# Altium schematic symbol library FMC-LPC.SchLib: 1 symbol
Pins are listed as number, name and electrical type; pins without a type are passive.

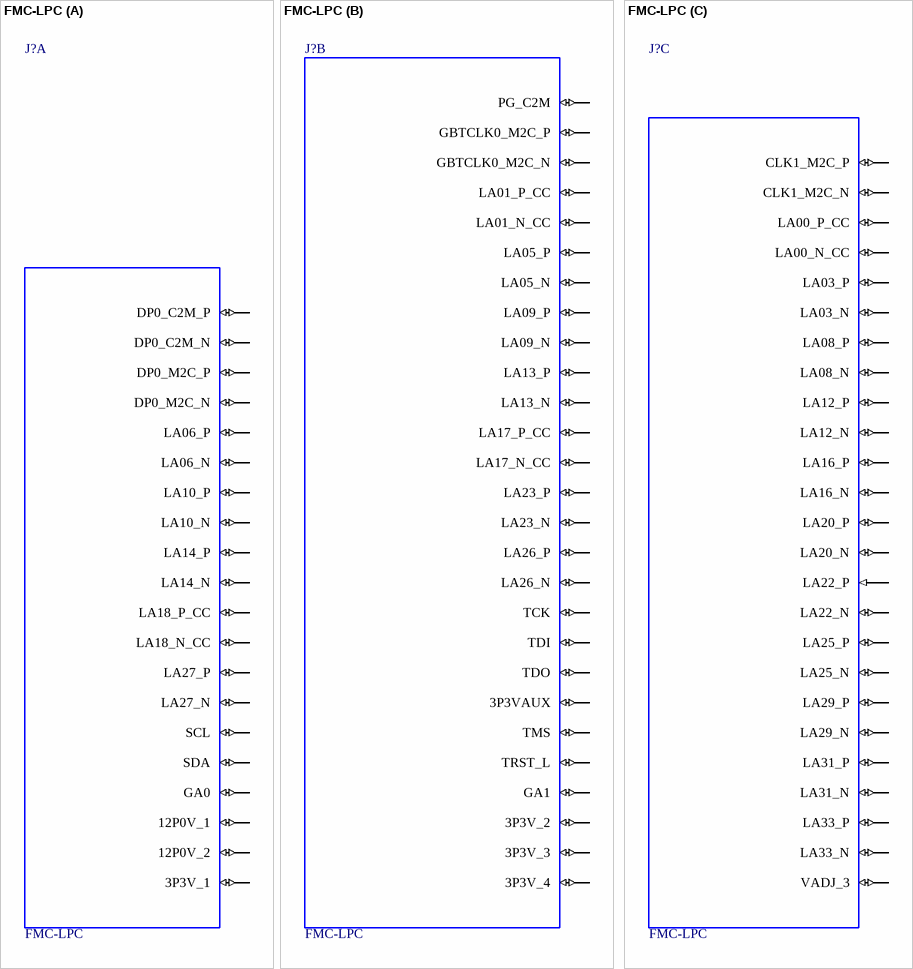
[diagram p0: symbol FMC-LPC]

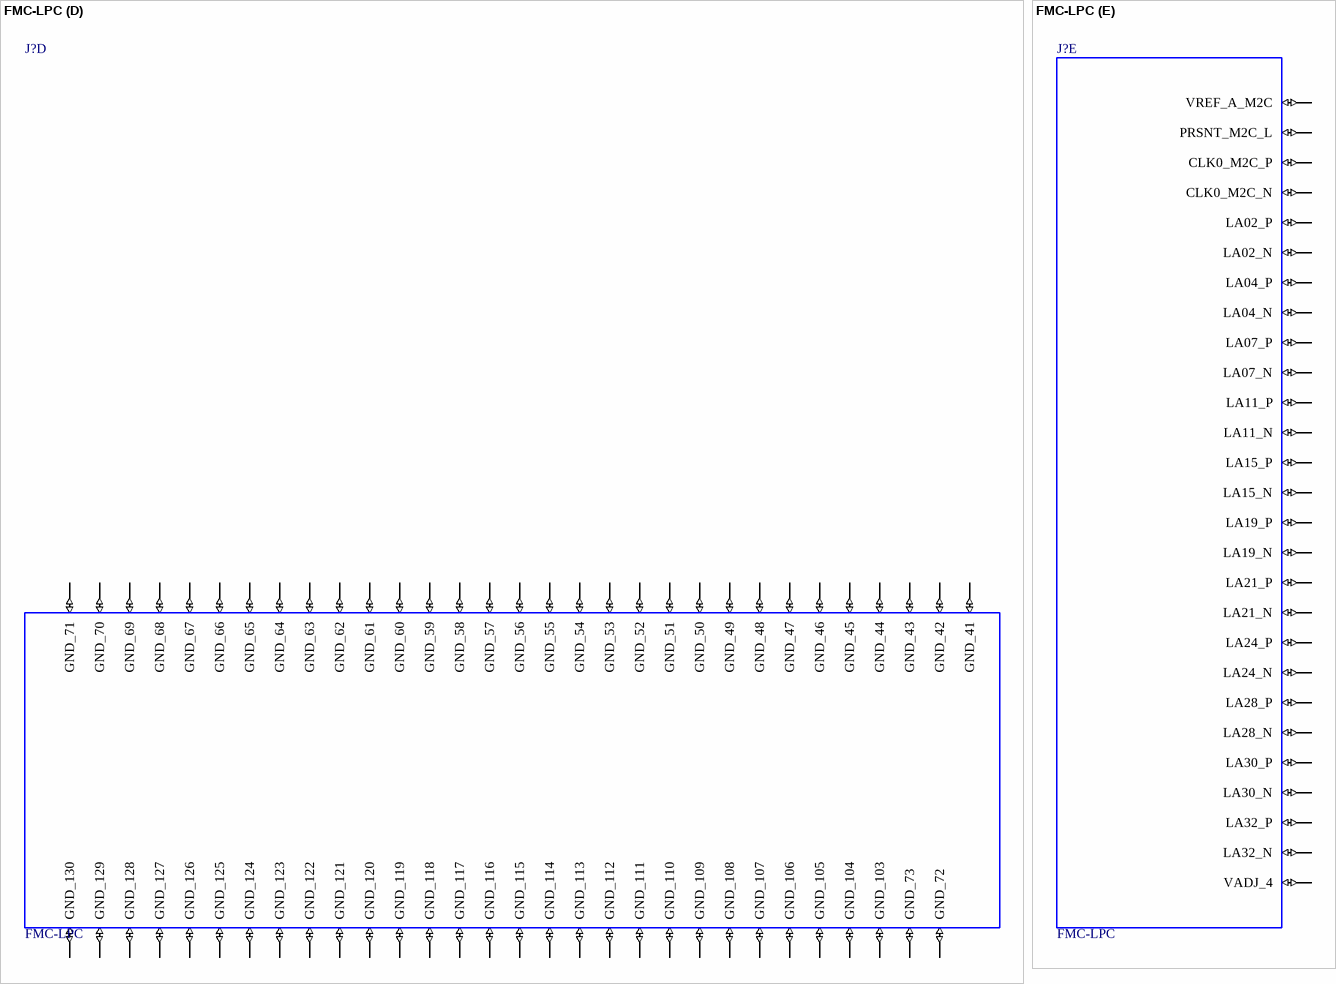
[diagram p1: symbol FMC-LPC]

## FMC-LPC
designator J?
part A pins: C2 DP0_C2M_P (io), C3 DP0_C2M_N (io), C6 DP0_M2C_P (io), C7 DP0_M2C_N (io), C10 LA06_P (io), C11 LA06_N (io), C14 LA10_P (io), C15 LA10_N (io), C18 LA14_P (io), C19 LA14_N (io), C22 LA18_P_CC (io), C23 LA18_N_CC (io), C26 LA27_P (io), C27 LA27_N (io), C30 SCL (io), C31 SDA (io), C34 GA0 (io), C35 12P0V_1 (io), C37 12P0V_2 (io), C39 3P3V_1 (io)
part B pins: D1 PG_C2M (io), D4 GBTCLK0_M2C_P (io), D5 GBTCLK0_M2C_N (io), D8 LA01_P_CC (io), D9 LA01_N_CC (io), D11 LA05_P (io), D12 LA05_N (io), D14 LA09_P (io), D15 LA09_N (io), D17 LA13_P (io), D18 LA13_N (io), D20 LA17_P_CC (io), D21 LA17_N_CC (io), D23 LA23_P (io), D24 LA23_N (io), D26 LA26_P (io), D27 LA26_N (io), D29 TCK (io), D30 TDI (io), D31 TDO (io), D32 3P3VAUX (io), D33 TMS (io), D34 TRST_L (io), D35 GA1 (io), D36 3P3V_2 (io), D38 3P3V_3 (io), D40 3P3V_4 (io)
part C pins: G2 CLK1_M2C_P (io), G3 CLK1_M2C_N (io), G6 LA00_P_CC (io), G7 LA00_N_CC (io), G9 LA03_P (io), G10 LA03_N (io), G12 LA08_P (io), G13 LA08_N (io), G15 LA12_P (io), G16 LA12_N (io), G18 LA16_P (io), G19 LA16_N (io), G21 LA20_P (io), G22 LA20_N (io), G24 LA22_P (in), G25 LA22_N (io), G27 LA25_P (io), G28 LA25_N (io), G30 LA29_P (io), G31 LA29_N (io), G33 LA31_P (io), G34 LA31_N (io), G36 LA33_P (io), G37 LA33_N (io), G39 VADJ_3 (io)
part D pins: C1 GND_41 (io), C4 GND_42 (io), C5 GND_43 (io), C8 GND_44 (io), C9 GND_45 (io), C12 GND_46 (io), C13 GND_47 (io), C16 GND_48 (io), C17 GND_49 (io), C20 GND_50 (io), C21 GND_51 (io), C24 GND_52 (io), C25 GND_53 (io), C28 GND_54 (io), C29 GND_55 (io), C32 GND_56 (io), C33 GND_57 (io), C36 GND_58 (io), C38 GND_59 (io), C40 GND_60 (io), D2 GND_61 (io), D3 GND_62 (io), D6 GND_63 (io), D7 GND_64 (io), D10 GND_65 (io), D13 GND_66 (io), D16 GND_67 (io), D19 GND_68 (io), D22 GND_69 (io), D25 GND_70 (io), D28 GND_71 (io), D37 GND_72 (io), D39 GND_73 (io), G1 GND_103 (io), G4 GND_104 (io), G5 GND_105 (io), G8 GND_106 (io), G11 GND_107 (io), G14 GND_108 (io), G17 GND_109 (io), G20 GND_110 (io), G23 GND_111 (io), G26 GND_112 (io), G29 GND_113 (io), G32 GND_114 (io), G35 GND_115 (io), G38 GND_116 (io), G40 GND_117 (io), H3 GND_118 (io), H6 GND_119 (io), H9 GND_120 (io), H12 GND_121 (io), H15 GND_122 (io), H18 GND_123 (io), H21 GND_124 (io), H24 GND_125 (io), H27 GND_126 (io), H30 GND_127 (io), H33 GND_128 (io), H36 GND_129 (io), H39 GND_130 (io)
part E pins: H1 VREF_A_M2C (io), H2 PRSNT_M2C_L (io), H4 CLK0_M2C_P (io), H5 CLK0_M2C_N (io), H7 LA02_P (io), H8 LA02_N (io), H10 LA04_P (io), H11 LA04_N (io), H13 LA07_P (io), H14 LA07_N (io), H16 LA11_P (io), H17 LA11_N (io), H19 LA15_P (io), H20 LA15_N (io), H22 LA19_P (io), H23 LA19_N (io), H25 LA21_P (io), H26 LA21_N (io), H28 LA24_P (io), H29 LA24_N (io), H31 LA28_P (io), H32 LA28_N (io), H34 LA30_P (io), H35 LA30_N (io), H37 LA32_P (io), H38 LA32_N (io), H40 VADJ_4 (io)